# Altium schematic symbol library Transistors SiC.SchLib: 2 symbols
Pins are listed as number, name and electrical type; pins without a type are passive.

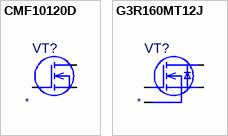
[diagram p0: symbols CMF10120D to G3R160MT12J]

## CMF10120D
designator VT?
footprint TO-247
footprint TO-247 R90 Mount
pins: 1 G, 2 S, 3 D

## G3R160MT12J
designator VT?
footprint TO-263-7
pins: 1 G, 2 KS, 3 S, 4 D